# Altium integrated library TI Data Converters Analog to Digital Converter.IntLib: 2198 symbols (part 6 of 164)
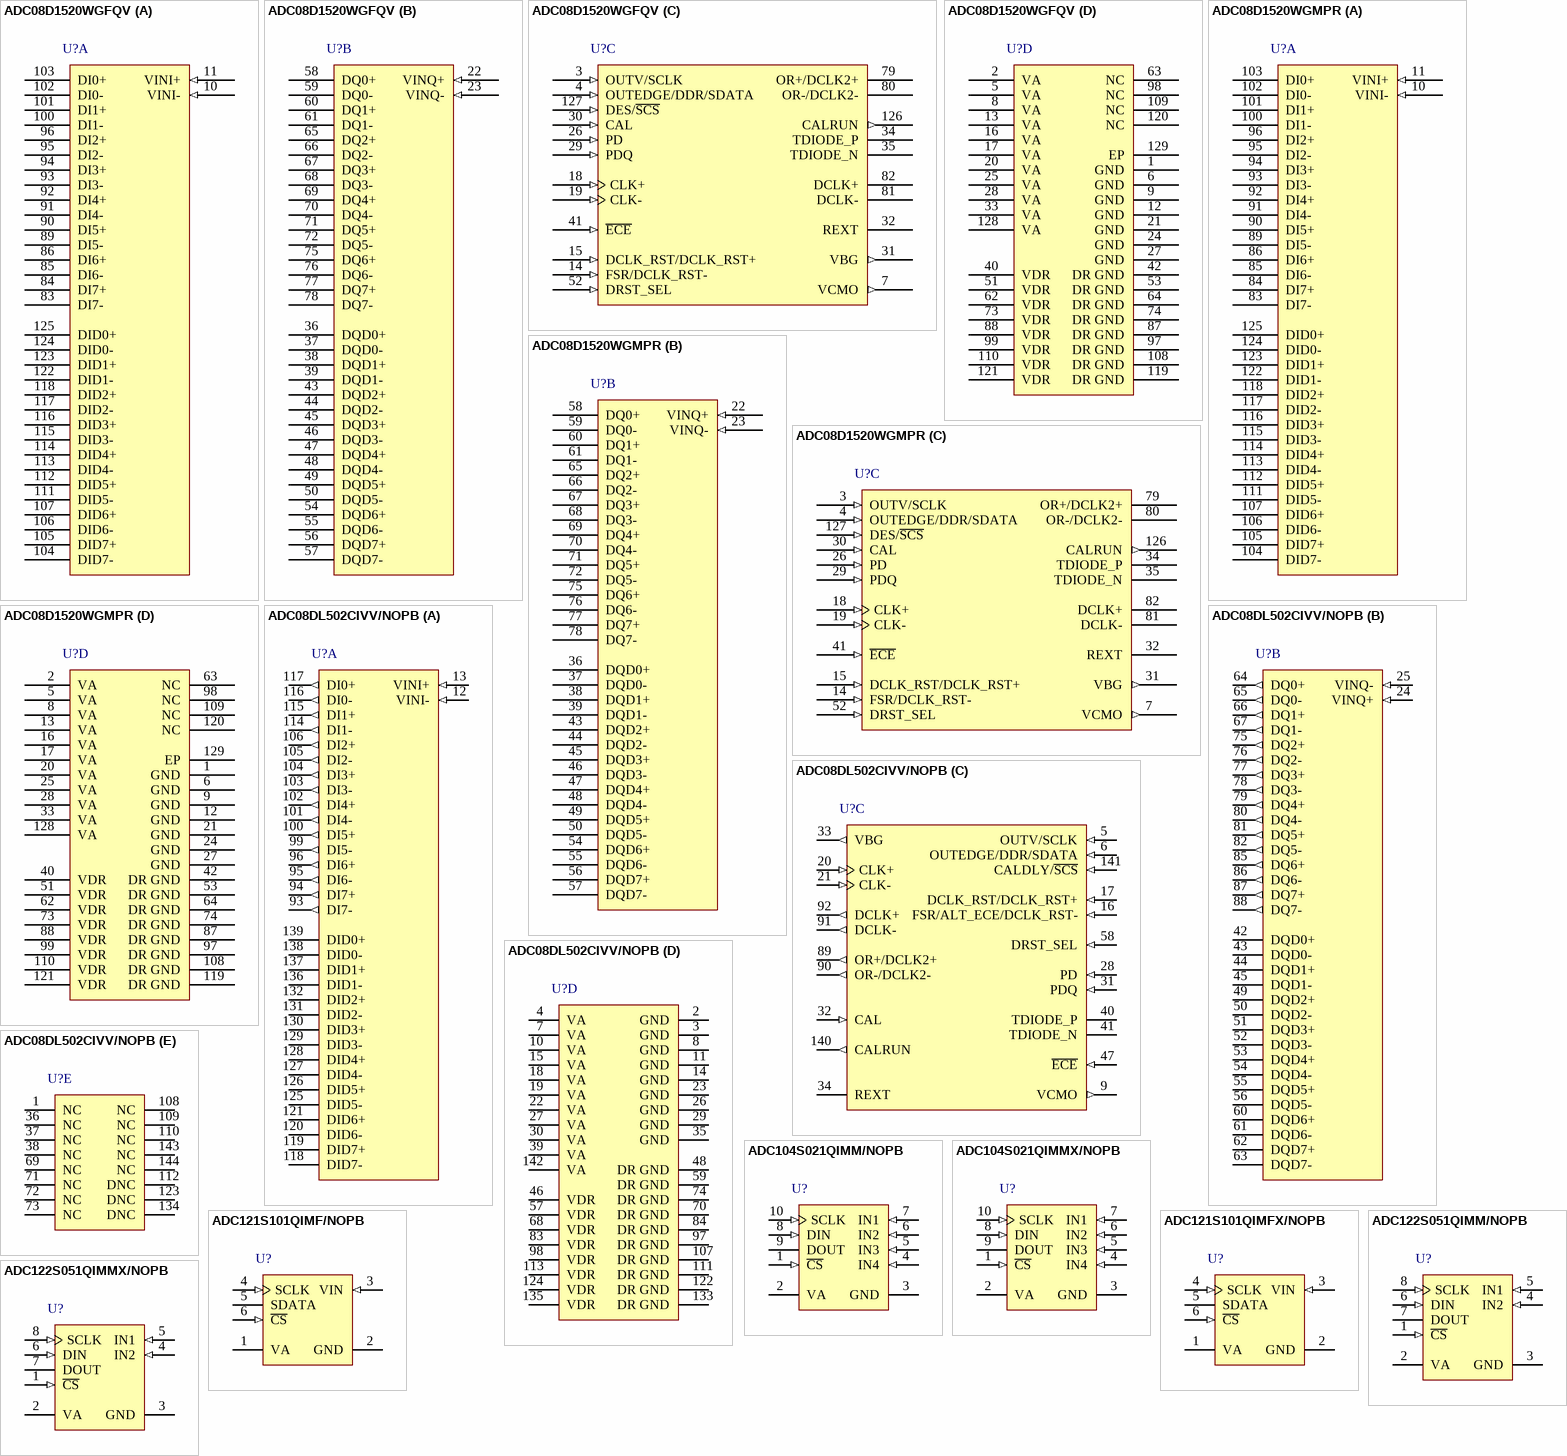
[diagram p131: symbols ADC08D1520WGFQV to ADC122S051QIMMX/NOPB]

## ADC08DL502CIVV/NOPB
designator U?
Low Power, 8-Bit, Dual 500 MSPS ADC, -40 to 70 degC, 144-pin LQFP (PGE144), Green (RoHS & no Sb/Br); Manufacturer: Texas Instruments; PartNumber: ADC08DL502CIVV/NOPB; # Input Channels: 2; Analog Voltage AV/DD(Min)(V): 1.8; Architecture: Folding Interpolating; ENOB(Bits): 7.6; INL(Max)(+/-LSB): 0.9; Interface: Parallel LVDS, Serial SPI Interface; Resolution(Bits): 8; Sample Rate(max)(SPS): 500M; SFDR(dB): 59.1; SINAD(dB): 47.6; SNR(dB): 48.5; SubFamily: High Speed ADC (>10MSPS); DatasheetVersion: SNAS582B; PackageVersion: 4040147/C, 10/1996; PackageReference: PGE144; PackageDescription: 144-Pin Plastic Quad Flatpack, Body 20 x 20 mm, Pitch 0.5 mm; Supplier 1: Digi-Key; Supplier Part Number 1: ADS7886SDBVR-ND; Analog Voltage AV/DD(Max)(V): 2; Digital Supply(Max)(V): 2; Digital Supply(Min)(V): 1.8; Eco-Plan: Green (RoHS & no Sb/Br); Mounting Technology: Surface Mount; Code_JEDEC: MS-026; ComponentLink1Description: Manufacturer URL; ComponentLink1URL: http://www.ti.com/; ComponentLink2Description: Datasheet; ComponentLink2URL: http://www.ti.com/lit/ds/symlink/adc08dl502.pdf; ComponentLink3Description: Package Specification; ComponentLink3URL: http://www.ti.com/litv/pdf/mtqf017a
footprint TI-PGE144_N (QFP, 144-Leads, Body 20x20mm, Pitch 0.5mm, IPC Medium Density)
footprint TI-PGE144_L (QFP, 144-Leads, Body 20x20mm, Pitch 0.5mm, IPC High Density)
footprint TI-PGE144_M (QFP, 144-Leads, Body 20x20mm, Pitch 0.5mm, IPC Low Density)
part A pins: 12 VINI- (in) "Analog signal inputs to the ADC. The differential full-scale input range of this input is programmable using the FSR pin 16 in normal mode and the Input Full-Scale Voltage Adjust register in the extended control mode. Refer (See Datasheet)", 13 VINI+ (in) "Analog signal inputs to the ADC. The differential full-scale input range of this input is programmable using the FSR pin 16 in normal mode and the Input Full-Scale Voltage Adjust register in the extended control mode. Refer (See Datasheet)", 93 DI7- (out) "I and Q channel LVDS Data Outputs that are not delayed in the output demultiplexer. Compared with the DId and DQd outputs, these outputs represent the later time samples. These outputs should always be terminated with a 100 (See Datasheet)", 94 DI7+ (out) "I and Q channel LVDS Data Outputs that are not delayed in the output demultiplexer. Compared with the DId and DQd outputs, these outputs represent the later time samples. These outputs should always be terminated with a 100 (See Datasheet)", 95 DI6- (out) "I and Q channel LVDS Data Outputs that are not delayed in the output demultiplexer. Compared with the DId and DQd outputs, these outputs represent the later time samples. These outputs should always be terminated with a 100 (See Datasheet)", 96 DI6+ (out) "I and Q channel LVDS Data Outputs that are not delayed in the output demultiplexer. Compared with the DId and DQd outputs, these outputs represent the later time samples. These outputs should always be terminated with a 100 (See Datasheet)", 99 DI5- (out) "I and Q channel LVDS Data Outputs that are not delayed in the output demultiplexer. Compared with the DId and DQd outputs, these outputs represent the later time samples. These outputs should always be terminated with a 100 (See Datasheet)", 100 DI5+ (out) "I and Q channel LVDS Data Outputs that are not delayed in the output demultiplexer. Compared with the DId and DQd outputs, these outputs represent the later time samples. These outputs should always be terminated with a 100 (See Datasheet)", 101 DI4- (out) "I and Q channel LVDS Data Outputs that are not delayed in the output demultiplexer. Compared with the DId and DQd outputs, these outputs represent the later time samples. These outputs should always be terminated with a 100 (See Datasheet)", 102 DI4+ (out) "I and Q channel LVDS Data Outputs that are not delayed in the output demultiplexer. Compared with the DId and DQd outputs, these outputs represent the later time samples. These outputs should always be terminated with a 100 (See Datasheet)", 103 DI3- (out) "I and Q channel LVDS Data Outputs that are not delayed in the output demultiplexer. Compared with the DId and DQd outputs, these outputs represent the later time samples. These outputs should always be terminated with a 100 (See Datasheet)", 104 DI3+ (out) "I and Q channel LVDS Data Outputs that are not delayed in the output demultiplexer. Compared with the DId and DQd outputs, these outputs represent the later time samples. These outputs should always be terminated with a 100 (See Datasheet)", 105 DI2- (out) "I and Q channel LVDS Data Outputs that are not delayed in the output demultiplexer. Compared with the DId and DQd outputs, these outputs represent the later time samples. These outputs should always be terminated with a 100 (See Datasheet)", 106 DI2+ (out) "I and Q channel LVDS Data Outputs that are not delayed in the output demultiplexer. Compared with the DId and DQd outputs, these outputs represent the later time samples. These outputs should always be terminated with a 100 (See Datasheet)", 114 DI1- (out) "I and Q channel LVDS Data Outputs that are not delayed in the output demultiplexer. Compared with the DId and DQd outputs, these outputs represent the later time samples. These outputs should always be terminated with a 100 (See Datasheet)", 115 DI1+ (out) "I and Q channel LVDS Data Outputs that are not delayed in the output demultiplexer. Compared with the DId and DQd outputs, these outputs represent the later time samples. These outputs should always be terminated with a 100 (See Datasheet)", 116 DI0- (out) "I and Q channel LVDS Data Outputs that are not delayed in the output demultiplexer. Compared with the DId and DQd outputs, these outputs represent the later time samples. These outputs should always be terminated with a 100 (See Datasheet)", 117 DI0+ (out) "I and Q channel LVDS Data Outputs that are not delayed in the output demultiplexer. Compared with the DId and DQd outputs, these outputs represent the later time samples. These outputs should always be terminated with a 100 (See Datasheet)", 118 DID7- (hiz) "I and Q channel LVDS Data Outputs that are delayed by one CLK cycle in the output demultiplexer. Compared with the DI/DQ outputs, these outputs represent the earlier time sample. These outputs should be terminated with a 100 (See Datasheet)", 119 DID7+ (hiz) "I and Q channel LVDS Data Outputs that are delayed by one CLK cycle in the output demultiplexer. Compared with the DI/DQ outputs, these outputs represent the earlier time sample. These outputs should be terminated with a 100 (See Datasheet)", 120 DID6- (hiz) "I and Q channel LVDS Data Outputs that are delayed by one CLK cycle in the output demultiplexer. Compared with the DI/DQ outputs, these outputs represent the earlier time sample. These outputs should be terminated with a 100 (See Datasheet)", 121 DID6+ (hiz) "I and Q channel LVDS Data Outputs that are delayed by one CLK cycle in the output demultiplexer. Compared with the DI/DQ outputs, these outputs represent the earlier time sample. These outputs should be terminated with a 100 (See Datasheet)", 125 DID5- (hiz) "I and Q channel LVDS Data Outputs that are delayed by one CLK cycle in the output demultiplexer. Compared with the DI/DQ outputs, these outputs represent the earlier time sample. These outputs should be terminated with a 100 (See Datasheet)", 126 DID5+ (hiz) "I and Q channel LVDS Data Outputs that are delayed by one CLK cycle in the output demultiplexer. Compared with the DI/DQ outputs, these outputs represent the earlier time sample. These outputs should be terminated with a 100 (See Datasheet)", 127 DID4- (hiz) "I and Q channel LVDS Data Outputs that are delayed by one CLK cycle in the output demultiplexer. Compared with the DI/DQ outputs, these outputs represent the earlier time sample. These outputs should be terminated with a 100 (See Datasheet)", 128 DID4+ (hiz) "I and Q channel LVDS Data Outputs that are delayed by one CLK cycle in the output demultiplexer. Compared with the DI/DQ outputs, these outputs represent the earlier time sample. These outputs should be terminated with a 100 (See Datasheet)", 129 DID3- (hiz) "I and Q channel LVDS Data Outputs that are delayed by one CLK cycle in the output demultiplexer. Compared with the DI/DQ outputs, these outputs represent the earlier time sample. These outputs should be terminated with a 100 (See Datasheet)", 130 DID3+ (hiz) "I and Q channel LVDS Data Outputs that are delayed by one CLK cycle in the output demultiplexer. Compared with the DI/DQ outputs, these outputs represent the earlier time sample. These outputs should be terminated with a 100 (See Datasheet)", 131 DID2- (hiz) "I and Q channel LVDS Data Outputs that are delayed by one CLK cycle in the output demultiplexer. Compared with the DI/DQ outputs, these outputs represent the earlier time sample. These outputs should be terminated with a 100 (See Datasheet)", 132 DID2+ (hiz) "I and Q channel LVDS Data Outputs that are delayed by one CLK cycle in the output demultiplexer. Compared with the DI/DQ outputs, these outputs represent the earlier time sample. These outputs should be terminated with a 100 (See Datasheet)", 136 DID1- (hiz) "I and Q channel LVDS Data Outputs that are delayed by one CLK cycle in the output demultiplexer. Compared with the DI/DQ outputs, these outputs represent the earlier time sample. These outputs should be terminated with a 100 (See Datasheet)", 137 DID1+ (hiz) "I and Q channel LVDS Data Outputs that are delayed by one CLK cycle in the output demultiplexer. Compared with the DI/DQ outputs, these outputs represent the earlier time sample. These outputs should be terminated with a 100 (See Datasheet)", 138 DID0- (hiz) "I and Q channel LVDS Data Outputs that are delayed by one CLK cycle in the output demultiplexer. Compared with the DI/DQ outputs, these outputs represent the earlier time sample. These outputs should be terminated with a 100 (See Datasheet)", 139 DID0+ (hiz) "I and Q channel LVDS Data Outputs that are delayed by one CLK cycle in the output demultiplexer. Compared with the DI/DQ outputs, these outputs represent the earlier time sample. These outputs should be terminated with a 100 (See Datasheet)"
part B pins: 24 VINQ+ (in) "Analog signal inputs to the ADC. The differential full-scale input range of this input is programmable using the FSR pin 16 in normal mode and the Input Full-Scale Voltage Adjust register in the extended control mode. Refer (See Datasheet)", 25 VINQ- (in) "Analog signal inputs to the ADC. The differential full-scale input range of this input is programmable using the FSR pin 16 in normal mode and the Input Full-Scale Voltage Adjust register in the extended control mode. Refer (See Datasheet)", 42 DQD0+ (hiz) "I and Q channel LVDS Data Outputs that are delayed by one CLK cycle in the output demultiplexer. Compared with the DI/DQ outputs, these outputs represent the earlier time sample. These outputs should be terminated with a 100 (See Datasheet)", 43 DQD0- (hiz) "I and Q channel LVDS Data Outputs that are delayed by one CLK cycle in the output demultiplexer. Compared with the DI/DQ outputs, these outputs represent the earlier time sample. These outputs should be terminated with a 100 (See Datasheet)", 44 DQD1+ (hiz) "I and Q channel LVDS Data Outputs that are delayed by one CLK cycle in the output demultiplexer. Compared with the DI/DQ outputs, these outputs represent the earlier time sample. These outputs should be terminated with a 100 (See Datasheet)", 45 DQD1- (hiz) "I and Q channel LVDS Data Outputs that are delayed by one CLK cycle in the output demultiplexer. Compared with the DI/DQ outputs, these outputs represent the earlier time sample. These outputs should be terminated with a 100 (See Datasheet)", 49 DQD2+ (hiz) "I and Q channel LVDS Data Outputs that are delayed by one CLK cycle in the output demultiplexer. Compared with the DI/DQ outputs, these outputs represent the earlier time sample. These outputs should be terminated with a 100 (See Datasheet)", 50 DQD2- (hiz) "I and Q channel LVDS Data Outputs that are delayed by one CLK cycle in the output demultiplexer. Compared with the DI/DQ outputs, these outputs represent the earlier time sample. These outputs should be terminated with a 100 (See Datasheet)", 51 DQD3+ (hiz) "I and Q channel LVDS Data Outputs that are delayed by one CLK cycle in the output demultiplexer. Compared with the DI/DQ outputs, these outputs represent the earlier time sample. These outputs should be terminated with a 100 (See Datasheet)", 52 DQD3- (hiz) "I and Q channel LVDS Data Outputs that are delayed by one CLK cycle in the output demultiplexer. Compared with the DI/DQ outputs, these outputs represent the earlier time sample. These outputs should be terminated with a 100 (See Datasheet)", 53 DQD4+ (hiz) "I and Q channel LVDS Data Outputs that are delayed by one CLK cycle in the output demultiplexer. Compared with the DI/DQ outputs, these outputs represent the earlier time sample. These outputs should be terminated with a 100 (See Datasheet)", 54 DQD4- (hiz) "I and Q channel LVDS Data Outputs that are delayed by one CLK cycle in the output demultiplexer. Compared with the DI/DQ outputs, these outputs represent the earlier time sample. These outputs should be terminated with a 100 (See Datasheet)", 55 DQD5+ (hiz) "I and Q channel LVDS Data Outputs that are delayed by one CLK cycle in the output demultiplexer. Compared with the DI/DQ outputs, these outputs represent the earlier time sample. These outputs should be terminated with a 100 (See Datasheet)", 56 DQD5- (hiz) "I and Q channel LVDS Data Outputs that are delayed by one CLK cycle in the output demultiplexer. Compared with the DI/DQ outputs, these outputs represent the earlier time sample. These outputs should be terminated with a 100 (See Datasheet)", 60 DQD6+ (hiz) "I and Q channel LVDS Data Outputs that are delayed by one CLK cycle in the output demultiplexer. Compared with the DI/DQ outputs, these outputs represent the earlier time sample. These outputs should be terminated with a 100 (See Datasheet)", 61 DQD6- (hiz) "I and Q channel LVDS Data Outputs that are delayed by one CLK cycle in the output demultiplexer. Compared with the DI/DQ outputs, these outputs represent the earlier time sample. These outputs should be terminated with a 100 (See Datasheet)", 62 DQD7+ (hiz) "I and Q channel LVDS Data Outputs that are delayed by one CLK cycle in the output demultiplexer. Compared with the DI/DQ outputs, these outputs represent the earlier time sample. These outputs should be terminated with a 100 (See Datasheet)", 63 DQD7- (hiz) "I and Q channel LVDS Data Outputs that are delayed by one CLK cycle in the output demultiplexer. Compared with the DI/DQ outputs, these outputs represent the earlier time sample. These outputs should be terminated with a 100 (See Datasheet)", 64 DQ0+ (out) "I and Q channel LVDS Data Outputs that are not delayed in the output demultiplexer. Compared with the DId and DQd outputs, these outputs represent the later time samples. These outputs should always be terminated with a 100 (See Datasheet)", 65 DQ0- (out) "I and Q channel LVDS Data Outputs that are not delayed in the output demultiplexer. Compared with the DId and DQd outputs, these outputs represent the later time samples. These outputs should always be terminated with a 100 (See Datasheet)", 66 DQ1+ (out) "I and Q channel LVDS Data Outputs that are not delayed in the output demultiplexer. Compared with the DId and DQd outputs, these outputs represent the later time samples. These outputs should always be terminated with a 100 (See Datasheet)", 67 DQ1- (out) "I and Q channel LVDS Data Outputs that are not delayed in the output demultiplexer. Compared with the DId and DQd outputs, these outputs represent the later time samples. These outputs should always be terminated with a 100 (See Datasheet)", 75 DQ2+ (out) "I and Q channel LVDS Data Outputs that are not delayed in the output demultiplexer. Compared with the DId and DQd outputs, these outputs represent the later time samples. These outputs should always be terminated with a 100 (See Datasheet)", 76 DQ2- (out) "I and Q channel LVDS Data Outputs that are not delayed in the output demultiplexer. Compared with the DId and DQd outputs, these outputs represent the later time samples. These outputs should always be terminated with a 100 (See Datasheet)", 77 DQ3+ (out) "I and Q channel LVDS Data Outputs that are not delayed in the output demultiplexer. Compared with the DId and DQd outputs, these outputs represent the later time samples. These outputs should always be terminated with a 100 (See Datasheet)", 78 DQ3- (out) "I and Q channel LVDS Data Outputs that are not delayed in the output demultiplexer. Compared with the DId and DQd outputs, these outputs represent the later time samples. These outputs should always be terminated with a 100 (See Datasheet)", 79 DQ4+ (out) "I and Q channel LVDS Data Outputs that are not delayed in the output demultiplexer. Compared with the DId and DQd outputs, these outputs represent the later time samples. These outputs should always be terminated with a 100 (See Datasheet)", 80 DQ4- (out) "I and Q channel LVDS Data Outputs that are not delayed in the output demultiplexer. Compared with the DId and DQd outputs, these outputs represent the later time samples. These outputs should always be terminated with a 100 (See Datasheet)", 81 DQ5+ (out) "I and Q channel LVDS Data Outputs that are not delayed in the output demultiplexer. Compared with the DId and DQd outputs, these outputs represent the later time samples. These outputs should always be terminated with a 100 (See Datasheet)", 82 DQ5- (out) "I and Q channel LVDS Data Outputs that are not delayed in the output demultiplexer. Compared with the DId and DQd outputs, these outputs represent the later time samples. These outputs should always be terminated with a 100 (See Datasheet)", 85 DQ6+ (out) "I and Q channel LVDS Data Outputs that are not delayed in the output demultiplexer. Compared with the DId and DQd outputs, these outputs represent the later time samples. These outputs should always be terminated with a 100 (See Datasheet)", 86 DQ6- (out) "I and Q channel LVDS Data Outputs that are not delayed in the output demultiplexer. Compared with the DId and DQd outputs, these outputs represent the later time samples. These outputs should always be terminated with a 100 (See Datasheet)", 87 DQ7+ (out) "I and Q channel LVDS Data Outputs that are not delayed in the output demultiplexer. Compared with the DId and DQd outputs, these outputs represent the later time samples. These outputs should always be terminated with a 100 (See Datasheet)", 88 DQ7- (out) "I and Q channel LVDS Data Outputs that are not delayed in the output demultiplexer. Compared with the DId and DQd outputs, these outputs represent the later time samples. These outputs should always be terminated with a 100 (See Datasheet)"
part C pins: 5 OUTV/SCLK (in), 6 OUTEDGE/DDR/SDATA (in), 9 VCMO (out) "Common Mode Voltage. This pin is the common mode output in d.c. coupling mode and also serves as the a.c. coupling mode select pin. When d.c. coupling is used, the voltage output at this pin is required to be the common mode (See Datasheet)", 16 FSR/ALT_ECE/DCLK_RST- (in), 17 DCLK_RST/DCLK_RST+ (in), 20 CLK+ (in) "LVDS Clock input pins for the ADC. The differential clock signal must be a.c. coupled to these pins. The input signal is sampled on the falling edge of CLK+.", 21 CLK- (in) "LVDS Clock input pins for the ADC. The differential clock signal must be a.c. coupled to these pins. The input signal is sampled on the falling edge of CLK+.", 28 PD (in) "Power Down Pins. A logic high on the PD pin puts the entire device into the Power Down Mode.", 31 PDQ (in) "A logic high on the PDQ pin puts only the "Q" ADC into the Power Down mode.", 32 CAL (in) "Calibration Cycle Initiate. A minimum tCAL_L input clock cycles logic low followed by a minimum of tCAL_H input clock cycles high on this pin initiates the calibration sequence.", 33 VBG (out) "Bandgap output voltage capable of 100 uA source/sink and can drive a load up to 80 pF.", 34 REXT "External bias resistor connection. Nominal value is 4.7 kohm (+/-0.1%) to ground.", 40 TDIODE_P "Temperature Diode Positive (Anode) and Negative (Cathode). These pins may be used for die temperature measurements, however no specified accuracy is implied or enured. Noise coupling from adjacent output data signals has (See Datasheet)", 41 TDIODE_N "Temperature Diode Positive (Anode) and Negative (Cathode). These pins may be used for die temperature measurements, however no specified accuracy is implied or enured. Noise coupling from adjacent output data signals has (See Datasheet)", 47 ~{ECE} (in) "Extended Control Enable. This pin always enables and disables Extended Control Enable. When this pin is set logic high, the extended control mode is inactive and all control of the device must be through control pins only . (See Datasheet)", 58 DRST_SEL (in) "DCLK_RST select. This pin selects whether the DCLK is reset using a single-ended or differential signal. When this pin is floating or logic high, the DCLK_RST operation is singleended and pin 16 functions as FSR/ALT_ECE. (See Datasheet)", 89 OR+/DCLK2+ (out), 90 OR-/DCLK2- (out), 91 DCLK- (out) "Data Clock. Differential Clock outputs used to latch the output data. Delayed and non-delayed data outputs are supplied synchronous to this signal. In 1:2 demultiplexed mode, this signal is at 1/2 the input clock rate in SDR (See Datasheet)", 92 DCLK+ (out) "Data Clock. Differential Clock outputs used to latch the output data. Delayed and non-delayed data outputs are supplied synchronous to this signal. In 1:2 demultiplexed mode, this signal is at 1/2 the input clock rate in SDR (See Datasheet)", 140 CALRUN (out) "Calibration Running indication. This pin is at a logic high when calibration is running.", 141 CALDLY/~{SCS} (in)
part D pins: 2 GND (power) "Ground return for VA.", 3 GND (power) "Ground return for VA.", 4 VA (power) "Analog power supply pins. Bypass these pins to ground.", 7 VA (power) "Analog power supply pins. Bypass these pins to ground.", 8 GND (power) "Ground return for VA.", 10 VA (power) "Analog power supply pins. Bypass these pins to ground.", 11 GND (power) "Ground return for VA.", 14 GND (power) "Ground return for VA.", 15 VA (power) "Analog power supply pins. Bypass these pins to ground.", 18 VA (power) "Analog power supply pins. Bypass these pins to ground.", 19 VA (power) "Analog power supply pins. Bypass these pins to ground.", 22 VA (power) "Analog power supply pins. Bypass these pins to ground.", 23 GND (power) "Ground return for VA.", 26 GND (power) "Ground return for VA.", 27 VA (power) "Analog power supply pins. Bypass these pins to ground.", 29 GND (power) "Ground return for VA.", 30 VA (power) "Analog power supply pins. Bypass these pins to ground.", 35 GND (power) "Ground return for VA.", 39 VA (power) "Analog power supply pins. Bypass these pins to ground.", 46 VDR (power) "Output Driver power supply pins. Bypass these pins to DR GND.", 48 DR GND (power) "Ground return for VDR.", 57 VDR (power) "Output Driver power supply pins. Bypass these pins to DR GND.", 59 DR GND (power) "Ground return for VDR.", 68 VDR (power) "Output Driver power supply pins. Bypass these pins to DR GND.", 70 DR GND (power) "Ground return for VDR.", 74 DR GND (power) "Ground return for VDR.", 83 VDR (power) "Output Driver power supply pins. Bypass these pins to DR GND.", 84 DR GND (power) "Ground return for VDR.", 97 DR GND (power) "Ground return for VDR.", 98 VDR (power) "Output Driver power supply pins. Bypass these pins to DR GND.", 107 DR GND (power) "Ground return for VDR.", 111 DR GND (power) "Ground return for VDR.", 113 VDR (power) "Output Driver power supply pins. Bypass these pins to DR GND.", 122 DR GND (power) "Ground return for VDR.", 124 VDR (power) "Output Driver power supply pins. Bypass these pins to DR GND.", 133 DR GND (power) "Ground return for VDR.", 135 VDR (power) "Output Driver power supply pins. Bypass these pins to DR GND.", 142 VA (power) "Analog power supply pins. Bypass these pins to ground."
part E pins: 1 NC "Not Connected. These pins are not bonded and may be left floating or connected to any potential.", 36 NC "Not Connected. These pins are not bonded and may be left floating or connected to any potential.", 37 NC "Not Connected. These pins are not bonded and may be left floating or connected to any potential.", 38 NC "Not Connected. These pins are not bonded and may be left floating or connected to any potential.", 69 NC "Not Connected. These pins are not bonded and may be left floating or connected to any potential.", 71 NC "Not Connected. These pins are not bonded and may be left floating or connected to any potential.", 72 NC "Not Connected. These pins are not bonded and may be left floating or connected to any potential.", 73 NC "Not Connected. These pins are not bonded and may be left floating or connected to any potential.", 108 NC "Not Connected. These pins are not bonded and may be left floating or connected to any potential.", 109 NC "Not Connected. These pins are not bonded and may be left floating or connected to any potential.", 110 NC "Not Connected. These pins are not bonded and may be left floating or connected to any potential.", 112 DNC "Do Not Connect. These pins are used for internal purposes and should not be connected, i.e. left floating. Do not ground.", 123 DNC "Do Not Connect. These pins are used for internal purposes and should not be connected, i.e. left floating. Do not ground.", 134 DNC "Do Not Connect. These pins are used for internal purposes and should not be connected, i.e. left floating. Do not ground.", 143 NC "Not Connected. These pins are not bonded and may be left floating or connected to any potential.", 144 NC "Not Connected. These pins are not bonded and may be left floating or connected to any potential."

## ADC104S021QIMM/NOPB
designator U?
4 Channel, 50 to 200 kSPS, 10-Bit ADC, -40 to 85 degC, 10-pin SOP (DGS10), Green (RoHS & no Sb/Br); Manufacturer: Texas Instruments; PartNumber: ADC104S021QIMM/NOPB; # Input Channels: 4; Analog Voltage AV/DD(Max)(V): 5.25; Analog Voltage AV/DD(Min)(V): 2.7; Architecture: SAR; ENOB(Bits): 9.9; INL(Max)(+/-LSB): 0.3; Interface: Serial SPI, QSPI, Microwire (Serial I/O); Resolution(Bits): 10; Sample Rate(max)(SPS): 200k; SFDR(dB): 82; SINAD(dB): 61.8; SubFamily: Precision ADC (<=10MSPS); DatasheetVersion: SNAS278H; PackageVersion: 4073272/C, 02/2004; PackageReference: DGS10; PackageDescription: 10-Pin Plastic Small Outline, Body 3 x 3 mm, Pitch 0.5 mm; Supplier 1: Digi-Key; Supplier Part Number 1: 296-19307-2-ND; Digital Supply(Max)(V): 5.25; Digital Supply(Min)(V): 2.7; Eco-Plan: Green (RoHS & no Sb/Br); SNR(dB): 61.8; Mounting Technology: Surface Mount; Code_JEDEC: MO-153; ComponentLink1Description: Manufacturer URL; ComponentLink1URL: http://www.ti.com/; ComponentLink2Description: Datasheet; ComponentLink2URL: http://www.ti.com/lit/ds/symlink/adc104s021q-q1.pdf; ComponentLink3Description: Package Specification; ComponentLink3URL: http://www.ti.com/lit/ml/mpds035b/mpds035b.pdf
footprint TI-DGS10_N (SOP, 10-Leads, Body 3x3mm, Pitch 0.5mm, IPC Medium Density)
footprint TI-DGS10_L (SOP, 10-Leads, Body 3x3mm, Pitch 0.5mm, IPC High Density)
footprint TI-DGS10_M (SOP, 10-Leads, Body 3x3mm, Pitch 0.5mm, IPC Low Density)
pins: 1 ~{CS} (in) "Chip select. On the falling edge of C\S\, a conversion process begins. Conversions continue as long as C\S\ is held low.", 2 VA (power) "Positive supply pin. This pin should be connected to a quiet +2.7V to +5.25V source and bypassed to GND with a 1 uF capacitor and a 0.1 uF monolithic capacitor located within 1 cm of the power pin.", 3 GND (power) "The ground return for supply and signals.", 4 IN4 (in) "Analog inputs. These signals can range from 0V to VA.", 5 IN3 (in) "Analog inputs. These signals can range from 0V to VA.", 6 IN2 (in) "Analog inputs. These signals can range from 0V to VA.", 7 IN1 (in) "Analog inputs. These signals can range from 0V to VA.", 8 DIN (in) "Digital data input. The ADC104S021/ADC104S021Q's Control Register is loaded through this pin on rising edges of the SCLK pin.", 9 DOUT (hiz) "Digital data output. The output samples are clocked out of this pin on falling edges of the SCLK pin.", 10 SCLK (in) "Digital clock input. This clock directly controls the conversion and readout processes."

## ADC104S021QIMMX/NOPB
designator U?
4 Channel, 50 to 200 kSPS, 10-Bit ADC, -40 to 85 degC, 10-pin SOP (DGS10), Green (RoHS & no Sb/Br); Manufacturer: Texas Instruments; PartNumber: ADC104S021QIMMX/NOPB; # Input Channels: 4; Analog Voltage AV/DD(Max)(V): 5.25; Analog Voltage AV/DD(Min)(V): 2.7; Architecture: SAR; ENOB(Bits): 9.9; INL(Max)(+/-LSB): 0.3; Interface: Serial SPI, QSPI, Microwire (Serial I/O); Resolution(Bits): 10; Sample Rate(max)(SPS): 200k; SFDR(dB): 82; SINAD(dB): 61.8; SubFamily: Precision ADC (<=10MSPS); DatasheetVersion: SNAS278H; PackageVersion: 4073272/C, 02/2004; PackageReference: DGS10; PackageDescription: 10-Pin Plastic Small Outline, Body 3 x 3 mm, Pitch 0.5 mm; Supplier 1: Digi-Key; Supplier Part Number 1: ADS7887SDBVR-ND; Digital Supply(Max)(V): 5.25; Digital Supply(Min)(V): 2.7; Eco-Plan: Green (RoHS & no Sb/Br); SNR(dB): 61.8; Mounting Technology: Surface Mount; Code_JEDEC: MO-153; ComponentLink1Description: Manufacturer URL; ComponentLink1URL: http://www.ti.com/; ComponentLink2Description: Datasheet; ComponentLink2URL: http://www.ti.com/lit/ds/symlink/adc104s021q-q1.pdf; ComponentLink3Description: Package Specification; ComponentLink3URL: http://www.ti.com/lit/ml/mpds035b/mpds035b.pdf
footprint TI-DGS10_N (SOP, 10-Leads, Body 3x3mm, Pitch 0.5mm, IPC Medium Density)
footprint TI-DGS10_L (SOP, 10-Leads, Body 3x3mm, Pitch 0.5mm, IPC High Density)
footprint TI-DGS10_M (SOP, 10-Leads, Body 3x3mm, Pitch 0.5mm, IPC Low Density)
pins: 1 ~{CS} (in) "Chip select. On the falling edge of C\S\, a conversion process begins. Conversions continue as long as C\S\ is held low.", 2 VA (power) "Positive supply pin. This pin should be connected to a quiet +2.7V to +5.25V source and bypassed to GND with a 1 uF capacitor and a 0.1 uF monolithic capacitor located within 1 cm of the power pin.", 3 GND (power) "The ground return for supply and signals.", 4 IN4 (in) "Analog inputs. These signals can range from 0V to VA.", 5 IN3 (in) "Analog inputs. These signals can range from 0V to VA.", 6 IN2 (in) "Analog inputs. These signals can range from 0V to VA.", 7 IN1 (in) "Analog inputs. These signals can range from 0V to VA.", 8 DIN (in) "Digital data input. The ADC104S021/ADC104S021Q's Control Register is loaded through this pin on rising edges of the SCLK pin.", 9 DOUT (hiz) "Digital data output. The output samples are clocked out of this pin on falling edges of the SCLK pin.", 10 SCLK (in) "Digital clock input. This clock directly controls the conversion and readout processes."

## ADC121S101QIMF/NOPB
designator U?
Automotive Single Channel, 0.5 to 1 MSPS, 12-Bit ADC, -40 to 125 degC, 6-pin SOT23 (DBV6), Green (RoHS & no Sb/Br); Manufacturer: Texas Instruments; PartNumber: ADC121S101QIMF/NOPB; # Input Channels: 1; Analog Voltage AV/DD(Max)(V): 5.25; Analog Voltage AV/DD(Min)(V): 2.7; Architecture: SAR; ENOB(Bits): 11.6; Interface: Serial SPI, QSPI, Microwire (Serial I/O); Resolution(Bits): 12; Sample Rate(max)(SPS): 1M; SFDR(dB): 82; SINAD(dB): 72; SNR(dB): 72.5; SubFamily: Precision ADC (<=10MSPS); DatasheetVersion: SNAS304F; PackageVersion: 4073253-5/K, 03/2006; PackageReference: DBV6; PackageDescription: 6-Pin Plastic Small Outline, Body 1.6 x 2.9 mm, Pitch 0.95 mm; Supplier 1: Digi-Key; Supplier Part Number 1: 296-18266-2-ND; Digital Supply(Max)(V): 5.25; Digital Supply(Min)(V): 2.7; Eco-Plan: Green (RoHS & no Sb/Br); INL(Max)(+/-LSB): 1; Mounting Technology: Surface Mount; Code_JEDEC: MO-178; ComponentLink1Description: Manufacturer URL; ComponentLink1URL: http://www.ti.com/; ComponentLink2Description: Datasheet; ComponentLink2URL: http://www.ti.com/lit/ds/symlink/adc121s101-q1.pdf; ComponentLink3Description: Package Specification; ComponentLink3URL: http://www.ti.com/litv/pdf/mpds026h
footprint TI-DBV6_N (SOT23, 6-Leads, Body 2.9x1.6mm, Pitch 0.95mm, IPC Medium Density)
footprint TI-DBV6_L (SOT23, 6-Leads, Body 2.9x1.6mm, Pitch 0.95mm, IPC High Density)
footprint TI-DBV6_M (SOT23, 6-Leads, Body 2.9x1.6mm, Pitch 0.95mm, IPC Low Density)
pins: 1 VA (power) "Positive supply pin. This pin should be connected to a quiet +2.7V to +5.25V source and bypassed to GND with a 1 uF capacitor and a 0.1 uF monolithic capacitor located within 1 cm of the power pin.", 2 GND (power) "The ground return for the supply and signals.", 3 VIN (in) "Analog input. This signal can range from 0V to VA.", 4 SCLK (in) "Digital clock input. This clock directly controls the conversion and readout processes.", 5 SDATA (hiz) "Digital data output. The output samples are clocked out of this pin on falling edges of the SCLK pin.", 6 ~{CS} (in) "Chip select. On the falling edge of C\S\, a conversion process begins."

## ADC121S101QIMFX/NOPB
designator U?
Automotive Single Channel, 0.5 to 1 MSPS, 12-Bit ADC, -40 to 125 degC, 6-pin SOT23 (DBV6), Green (RoHS & no Sb/Br); Manufacturer: Texas Instruments; PartNumber: ADC121S101QIMFX/NOPB; # Input Channels: 1; Analog Voltage AV/DD(Max)(V): 5.25; Analog Voltage AV/DD(Min)(V): 2.7; Architecture: SAR; ENOB(Bits): 11.6; Interface: Serial SPI, QSPI, Microwire (Serial I/O); Resolution(Bits): 12; Sample Rate(max)(SPS): 1M; SFDR(dB): 82; SINAD(dB): 72; SNR(dB): 72.5; SubFamily: Precision ADC (<=10MSPS); DatasheetVersion: SNAS304F; PackageVersion: 4073253-5/K, 03/2006; PackageReference: DBV6; PackageDescription: 6-Pin Plastic Small Outline, Body 1.6 x 2.9 mm, Pitch 0.95 mm; Supplier 1: Mouser; Supplier Part Number 1: N/A; Digital Supply(Max)(V): 5.25; Digital Supply(Min)(V): 2.7; Eco-Plan: Green (RoHS & no Sb/Br); INL(Max)(+/-LSB): 1; Mounting Technology: Surface Mount; Code_JEDEC: MO-178; ComponentLink1Description: Manufacturer URL; ComponentLink1URL: http://www.ti.com/; ComponentLink2Description: Datasheet; ComponentLink2URL: http://www.ti.com/lit/ds/symlink/adc121s101-q1.pdf; ComponentLink3Description: Package Specification; ComponentLink3URL: http://www.ti.com/litv/pdf/mpds026h
footprint TI-DBV6_N (SOT23, 6-Leads, Body 2.9x1.6mm, Pitch 0.95mm, IPC Medium Density)
footprint TI-DBV6_L (SOT23, 6-Leads, Body 2.9x1.6mm, Pitch 0.95mm, IPC High Density)
footprint TI-DBV6_M (SOT23, 6-Leads, Body 2.9x1.6mm, Pitch 0.95mm, IPC Low Density)
pins: 1 VA (power) "Positive supply pin. This pin should be connected to a quiet +2.7V to +5.25V source and bypassed to GND with a 1 uF capacitor and a 0.1 uF monolithic capacitor located within 1 cm of the power pin.", 2 GND (power) "The ground return for the supply and signals.", 3 VIN (in) "Analog input. This signal can range from 0V to VA.", 4 SCLK (in) "Digital clock input. This clock directly controls the conversion and readout processes.", 5 SDATA (hiz) "Digital data output. The output samples are clocked out of this pin on falling edges of the SCLK pin.", 6 ~{CS} (in) "Chip select. On the falling edge of C\S\, a conversion process begins."

## ADC122S051QIMM/NOPB
designator U?
2 Channel, 200 to 500 kSPS 12-Bit ADC, -40 to 85 degC, 8-pin SOP (DGK8), Green (RoHS & no Sb/Br); Manufacturer: Texas Instruments; PartNumber: ADC122S051QIMM/NOPB; # Input Channels: 2; Analog Voltage AV/DD(Max)(V): 5.25; Analog Voltage AV/DD(Min)(V): 2.7; Architecture: SAR; ENOB(Bits): 11.7; INL(Max)(+/-LSB): 1.1; Interface: Serial SPI, QSPI, Microwire (Serial I/O); Resolution(Bits): 12; Sample Rate(max)(SPS): 500k; SFDR(dB): 86; SINAD(dB): 72; SNR(dB): 72.5; SubFamily: Precision ADC (<=10MSPS); DatasheetVersion: SNAS257E; PackageVersion: 4073329/E, 05/2006; PackageReference: DGK8; PackageDescription: 8-Pin Thin Small Outline, Body 3 x 3 mm, Pitch 0.65 mm; Supplier 1: Digi-Key; Supplier Part Number 1: ADS7888SDBVR-ND; Digital Supply(Max)(V): 5.25; Digital Supply(Min)(V): 2.7; Eco-Plan: Green (RoHS & no Sb/Br); Mounting Technology: Surface Mount; Code_JEDEC: MO-187; ComponentLink1Description: Manufacturer URL; ComponentLink1URL: http://www.ti.com/; ComponentLink2Description: Datasheet; ComponentLink2URL: http://www.ti.com/lit/ds/symlink/adc122s051q-q1.pdf; ComponentLink3Description: Package Specification; ComponentLink3URL: http://www.ti.com/litv/pdf/mpds028d
footprint TI-DGK8_N (SOP, 8-Leads, Body 3x3mm, Pitch 0.65mm, IPC Medium Density)
footprint TI-DGK8_L (SOP, 8-Leads, Body 3x3mm, Pitch 0.65mm, IPC High Density)
footprint TI-DGK8_M (SOP, 8-Leads, Body 3x3mm, Pitch 0.65mm, IPC Low Density)
pins: 1 ~{CS} (in) "Chip select. On the falling edge of C\S\, a conversion process begins. Conversions continue as long as C\S\ is held low.", 2 VA (power) "Positive supply pin. This pin should be connected to a quiet +2.7V to +5.25V source and bypassed to GND with a 1 uF capacitor and a 0.1 uF monolithic capacitor located within 1 cm of the power pin.", 3 GND (power) "The ground return for the die.", 4 IN2 (in) "Analog inputs. These signals can range from 0V to VA.", 5 IN1 (in) "Analog inputs. These signals can range from 0V to VA.", 6 DIN (in) "Digital data input. The ADC122S051/ADC122S051Q's Control Register is loaded through this pin on rising edges of the SCLK pin.", 7 DOUT (hiz) "Digital data output. The output samples are clocked out of this pin on falling edges of the SCLK pin.", 8 SCLK (in) "Digital clock input. This clock directly controls the conversion and readout processes."

## ADC122S051QIMMX/NOPB
designator U?
2 Channel, 200 to 500 kSPS 12-Bit ADC, -40 to 85 degC, 8-pin SOP (DGK8), Green (RoHS & no Sb/Br); Manufacturer: Texas Instruments; PartNumber: ADC122S051QIMMX/NOPB; # Input Channels: 2; Analog Voltage AV/DD(Max)(V): 5.25; Analog Voltage AV/DD(Min)(V): 2.7; Architecture: SAR; ENOB(Bits): 11.7; INL(Max)(+/-LSB): 1.1; Interface: Serial SPI, QSPI, Microwire (Serial I/O); Resolution(Bits): 12; Sample Rate(max)(SPS): 500k; SFDR(dB): 86; SINAD(dB): 72; SNR(dB): 72.5; SubFamily: Precision ADC (<=10MSPS); DatasheetVersion: SNAS257E; PackageVersion: 4073329/E, 05/2006; PackageReference: DGK8; PackageDescription: 8-Pin Thin Small Outline, Body 3 x 3 mm, Pitch 0.65 mm; Supplier 1: Digi-Key; Supplier Part Number 1: 296-18268-2-ND; Digital Supply(Max)(V): 5.25; Digital Supply(Min)(V): 2.7; Eco-Plan: Green (RoHS & no Sb/Br); Mounting Technology: Surface Mount; Code_JEDEC: MO-187; ComponentLink1Description: Manufacturer URL; ComponentLink1URL: http://www.ti.com/; ComponentLink2Description: Datasheet; ComponentLink2URL: http://www.ti.com/lit/ds/symlink/adc122s051q-q1.pdf; ComponentLink3Description: Package Specification; ComponentLink3URL: http://www.ti.com/litv/pdf/mpds028d
footprint TI-DGK8_N (SOP, 8-Leads, Body 3x3mm, Pitch 0.65mm, IPC Medium Density)
footprint TI-DGK8_L (SOP, 8-Leads, Body 3x3mm, Pitch 0.65mm, IPC High Density)
footprint TI-DGK8_M (SOP, 8-Leads, Body 3x3mm, Pitch 0.65mm, IPC Low Density)
pins: 1 ~{CS} (in) "Chip select. On the falling edge of C\S\, a conversion process begins. Conversions continue as long as C\S\ is held low.", 2 VA (power) "Positive supply pin. This pin should be connected to a quiet +2.7V to +5.25V source and bypassed to GND with a 1 uF capacitor and a 0.1 uF monolithic capacitor located within 1 cm of the power pin.", 3 GND (power) "The ground return for the die.", 4 IN2 (in) "Analog inputs. These signals can range from 0V to VA.", 5 IN1 (in) "Analog inputs. These signals can range from 0V to VA.", 6 DIN (in) "Digital data input. The ADC122S051/ADC122S051Q's Control Register is loaded through this pin on rising edges of the SCLK pin.", 7 DOUT (hiz) "Digital data output. The output samples are clocked out of this pin on falling edges of the SCLK pin.", 8 SCLK (in) "Digital clock input. This clock directly controls the conversion and readout processes."

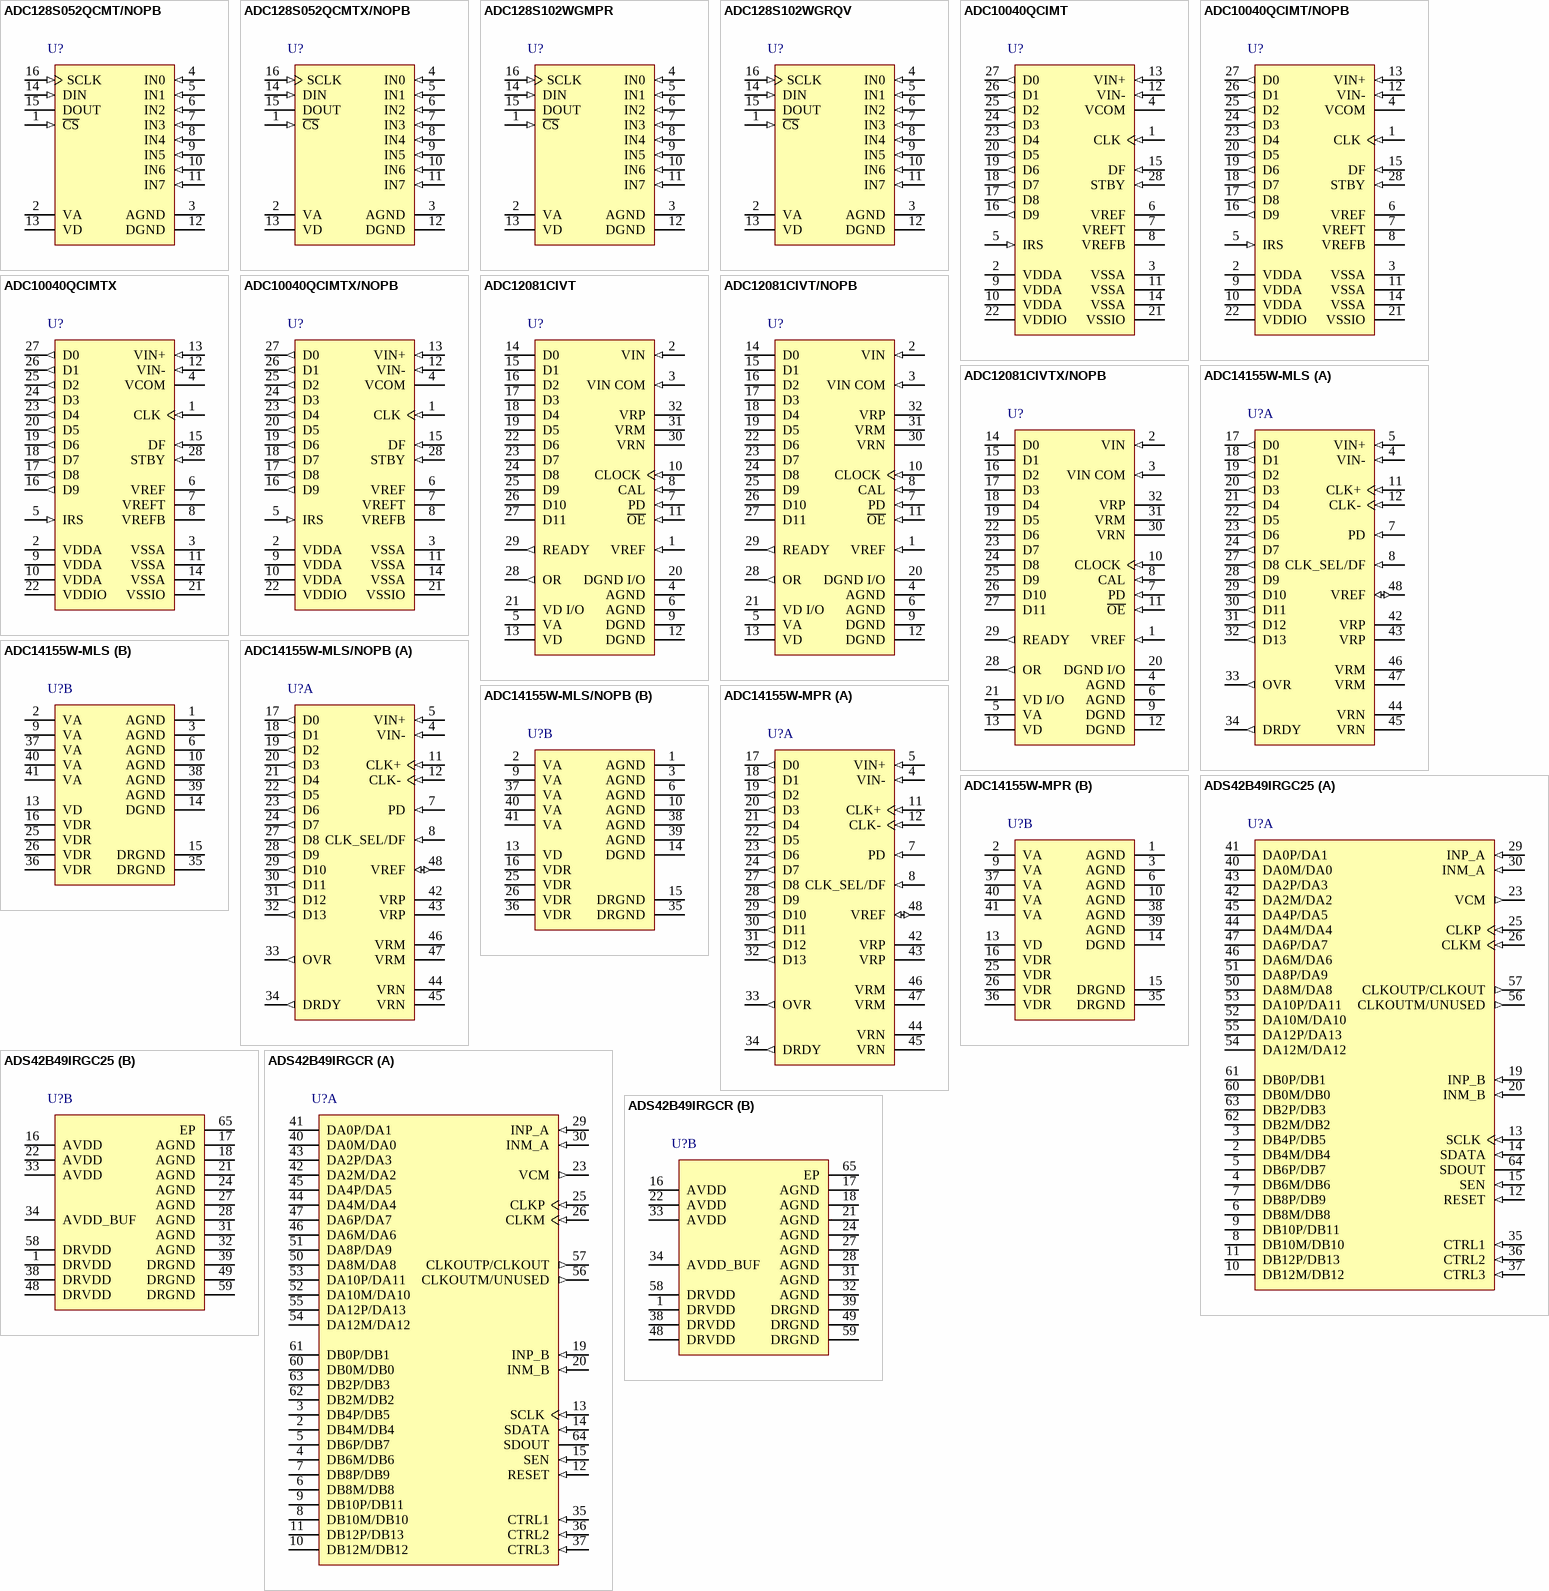
[diagram p2: symbols ADC128S052QCMT/NOPB to ADS42B49IRGCR]

## ADC128S052QCMT/NOPB
designator U?
8-Channel, 200 to 500 kSPS, 12-Bit ADC, -40 to 125 degC, 16-pin SOP (PW16), Green (RoHS & no Sb/Br); Manufacturer: Texas Instruments; PartNumber: ADC128S052QCMT/NOPB; # Input Channels: 8; Analog Voltage AV/DD(Max)(V): 5.25; Analog Voltage AV/DD(Min)(V): 2.7; Architecture: SAR; ENOB(Bits): 11.8; INL(Max)(+/-LSB): 1; Interface: Serial SPI, QSPI, Microwire (Serial I/O); Resolution(Bits): 12; Sample Rate(max)(SPS): 500k; SFDR(dB): 92; SINAD(dB): 73; SubFamily: Precision ADC (<=10MSPS); DatasheetVersion: SNAS333D; PackageVersion: 4040064-4/G, 02/2011; PackageReference: PW16; PackageDescription: 16-Pin Plastic Small Outline, Body 5 x 4.4 mm, Pitch 0.65 mm; Supplier 1: Mouser; Supplier Part Number 1: N/A; Digital Supply(Max)(V): 5.25; Digital Supply(Min)(V): 2.7; Eco-Plan: Green (RoHS & no Sb/Br); SNR(dB): 73; Mounting Technology: Surface Mount; Code_JEDEC: MO-153; ComponentLink1Description: Manufacturer URL; ComponentLink1URL: http://www.ti.com/; ComponentLink2Description: Datasheet; ComponentLink2URL: http://www.ti.com/lit/ds/symlink/adc128s052-q1.pdf; ComponentLink3Description: Package Specification; ComponentLink3URL: http://www.ti.com/lit/ml/mpds361/mpds361.pdf
footprint TI-PW16_N (SOP, 16-Leads, Body 5x4.4mm, Pitch 0.65mm, IPC Medium Density)
footprint TI-PW16_L (SOP, 16-Leads, Body 5x4.4mm, Pitch 0.65mm, IPC High Density)
footprint TI-PW16_M (SOP, 16-Leads, Body 5x4.4mm, Pitch 0.65mm, IPC Low Density)
pins: 1 ~{CS} (in), 2 VA (power), 3 AGND (power), 4 IN0 (in), 5 IN1 (in), 6 IN2 (in), 7 IN3 (in), 8 IN4 (in), 9 IN5 (in), 10 IN6 (in), 11 IN7 (in), 12 DGND (power), 13 VD (power), 14 DIN (in), 15 DOUT (hiz), 16 SCLK (in)

## ADC128S052QCMTX/NOPB
designator U?
8-Channel, 200 to 500 kSPS, 12-Bit ADC, -40 to 125 degC, 16-pin SOP (PW16), Green (RoHS & no Sb/Br); Manufacturer: Texas Instruments; PartNumber: ADC128S052QCMTX/NOPB; # Input Channels: 8; Analog Voltage AV/DD(Max)(V): 5.25; Analog Voltage AV/DD(Min)(V): 2.7; Architecture: SAR; ENOB(Bits): 11.8; INL(Max)(+/-LSB): 1; Interface: Serial SPI, QSPI, Microwire (Serial I/O); Resolution(Bits): 12; Sample Rate(max)(SPS): 500k; SFDR(dB): 92; SINAD(dB): 73; SubFamily: Precision ADC (<=10MSPS); DatasheetVersion: SNAS333D; PackageVersion: 4040064-4/G, 02/2011; PackageReference: PW16; PackageDescription: 16-Pin Plastic Small Outline, Body 5 x 4.4 mm, Pitch 0.65 mm; Supplier 1: Digi-Key; Supplier Part Number 1: ADS7868IDBVR-ND; Digital Supply(Max)(V): 5.25; Digital Supply(Min)(V): 2.7; Eco-Plan: Green (RoHS & no Sb/Br); SNR(dB): 73; Mounting Technology: Surface Mount; Code_JEDEC: MO-153; ComponentLink1Description: Manufacturer URL; ComponentLink1URL: http://www.ti.com/; ComponentLink2Description: Datasheet; ComponentLink2URL: http://www.ti.com/lit/ds/symlink/adc128s052-q1.pdf; ComponentLink3Description: Package Specification; ComponentLink3URL: http://www.ti.com/lit/ml/mpds361/mpds361.pdf
footprint TI-PW16_N (SOP, 16-Leads, Body 5x4.4mm, Pitch 0.65mm, IPC Medium Density)
footprint TI-PW16_L (SOP, 16-Leads, Body 5x4.4mm, Pitch 0.65mm, IPC High Density)
footprint TI-PW16_M (SOP, 16-Leads, Body 5x4.4mm, Pitch 0.65mm, IPC Low Density)
pins: 1 ~{CS} (in), 2 VA (power), 3 AGND (power), 4 IN0 (in), 5 IN1 (in), 6 IN2 (in), 7 IN3 (in), 8 IN4 (in), 9 IN5 (in), 10 IN6 (in), 11 IN7 (in), 12 DGND (power), 13 VD (power), 14 DIN (in), 15 DOUT (hiz), 16 SCLK (in)

## ADC128S102WGMPR
designator U?
8-Channel, 0.05 to 1 MSPS, 12-Bit ADC, 25 degC, 16-pin CFP (NAC16); Manufacturer: Texas Instruments; PartNumber: ADC128S102WGMPR; # Input Channels: 8; Analog Voltage AV/DD(Max)(V): 5.25; Analog Voltage AV/DD(Min)(V): 2.7; Architecture: SAR; ENOB(Bits): 11.6; INL(Max)(+/-LSB): 1.1; Interface: Serial SPI, QSPI, Microwire (Serial I/O); Resolution(Bits): 12; Sample Rate(max)(SPS): 1M; SFDR(dB): 91; SINAD(dB): 72; SubFamily: Precision ADC (<=10MSPS); DatasheetVersion: SNAS411M; PackageVersion: Rev. G, 02/2013; PackageReference: NAC16; PackageDescription: 16-Pin Ceramic, Metal Flat Pack, Body 9.91 x 6.35 mm, Pitch 1.27 mm; Supplier 1: Digi-Key; Supplier Part Number 1: ADS7868IDBVRG4-ND; Digital Supply(Max)(V): 5.25; Digital Supply(Min)(V): 2.7; SNR(dB): 72; Mounting Technology: Surface Mount; ComponentLink1Description: Manufacturer URL; ComponentLink1URL: http://www.ti.com/; ComponentLink2Description: Datasheet; ComponentLink2URL: http://www.ti.com/lit/ds/symlink/adc128s102qml-sp.pdf; ComponentLink3Description: Package Specification; ComponentLink3URL: http://www.ti.com/litv/pdf/mclg025
footprint TI-NAC16_N (CFP, 16-Leads, Body 9.91x6.35mm, Pitch 1.27mm, IPC Medium Density)
footprint TI-NAC16_L (CFP, 16-Leads, Body 9.91x6.35mm, Pitch 1.27mm, IPC High Density)
footprint TI-NAC16_M (CFP, 16-Leads, Body 9.91x6.35mm, Pitch 1.27mm, IPC Low Density)
pins: 1 ~{CS} (in), 2 VA (power), 3 AGND (power), 4 IN0 (in), 5 IN1 (in), 6 IN2 (in), 7 IN3 (in), 8 IN4 (in), 9 IN5 (in), 10 IN6 (in), 11 IN7 (in), 12 DGND (power), 13 VD (power), 14 DIN (in), 15 DOUT (hiz), 16 SCLK (in)

## ADC128S102WGRQV
designator U?
8-Channel, 0.05 to 1 MSPS, 12-Bit ADC, -55 to 125 degC, 16-pin CFP (NAC16); Manufacturer: Texas Instruments; PartNumber: ADC128S102WGRQV; # Input Channels: 8; Analog Voltage AV/DD(Max)(V): 5.25; Analog Voltage AV/DD(Min)(V): 2.7; Architecture: SAR; ENOB(Bits): 11.6; INL(Max)(+/-LSB): 1.1; Interface: Serial SPI, QSPI, Microwire (Serial I/O); Resolution(Bits): 12; Sample Rate(max)(SPS): 1M; SFDR(dB): 91; SINAD(dB): 72; SubFamily: Precision ADC (<=10MSPS); DatasheetVersion: SNAS411M; PackageVersion: Rev. G, 02/2013; PackageReference: NAC16; PackageDescription: 16-Pin Ceramic, Metal Flat Pack, Body 9.91 x 6.35 mm, Pitch 1.27 mm; Supplier 1: Digi-Key; Supplier Part Number 1: 296-18218-2-ND; Digital Supply(Max)(V): 5.25; Digital Supply(Min)(V): 2.7; SNR(dB): 72; Mounting Technology: Surface Mount; ComponentLink1Description: Manufacturer URL; ComponentLink1URL: http://www.ti.com/; ComponentLink2Description: Datasheet; ComponentLink2URL: http://www.ti.com/lit/ds/symlink/adc128s102qml-sp.pdf; ComponentLink3Description: Package Specification; ComponentLink3URL: http://www.ti.com/litv/pdf/mclg025
footprint TI-NAC16_N (CFP, 16-Leads, Body 9.91x6.35mm, Pitch 1.27mm, IPC Medium Density)
footprint TI-NAC16_L (CFP, 16-Leads, Body 9.91x6.35mm, Pitch 1.27mm, IPC High Density)
footprint TI-NAC16_M (CFP, 16-Leads, Body 9.91x6.35mm, Pitch 1.27mm, IPC Low Density)
pins: 1 ~{CS} (in), 2 VA (power), 3 AGND (power), 4 IN0 (in), 5 IN1 (in), 6 IN2 (in), 7 IN3 (in), 8 IN4 (in), 9 IN5 (in), 10 IN6 (in), 11 IN7 (in), 12 DGND (power), 13 VD (power), 14 DIN (in), 15 DOUT (hiz), 16 SCLK (in)